# Altium schematic symbol library common.SchLib: 18 symbols
Pins are listed as number, name and electrical type; pins without a type are passive.

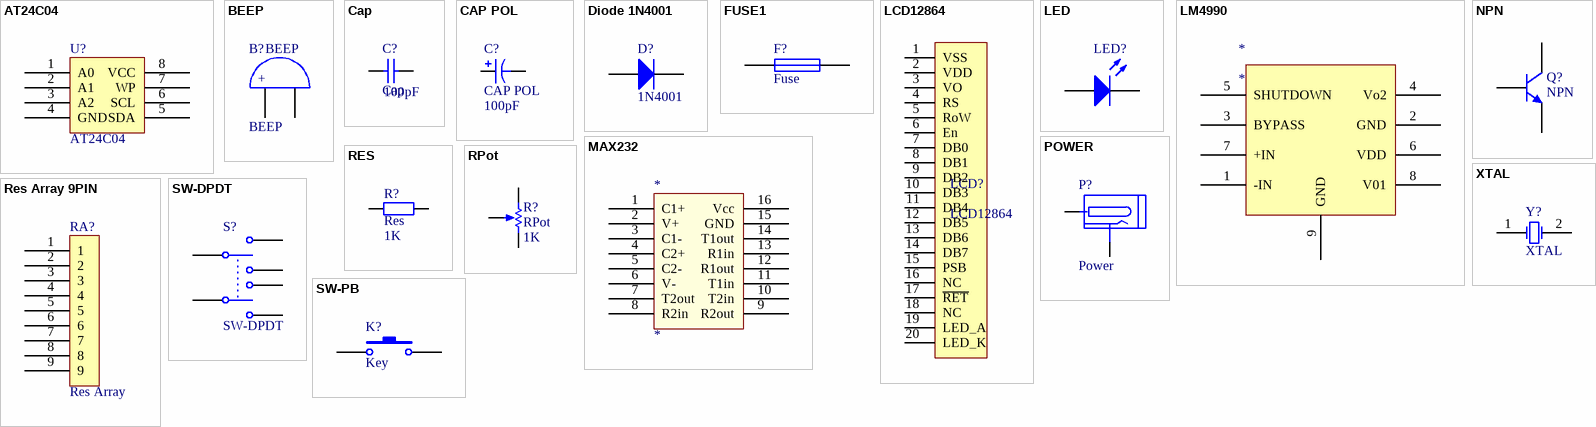
[diagram p0: symbols AT24C04 to XTAL]

## AT24C04
designator U?
footprint SOIC127P600-8AN (SOIC, 8-Leads, Body 4.9x3.9mm, Pitch 1.27mm, IPC Medium Density)
pins: 1 A0, 2 A1, 3 A2, 4 GND, 5 SDA, 6 SCL, 7 WP, 8 VCC

## BEEP
designator B?
footprint BEEP
pins: 1 B, 2 A
2 alternate drawings of the same symbol
text: +

## Cap
designator C?  value 100pF
Capacitor; Published: 8-Jun-2000; LatestRevisionDate: 17-Jul-2002; LatestRevisionNote: Re-released for DXP Platform.; Publisher: Altium Limited
footprint 1608[0603] (Chip Capacitor; Body 1.6 x 0.8 mm (LxW typ))
pins: 1, 2

## CAP POL
designator C?  value 100pF
Polarized Capacitor (Axial); Published: 8-Jun-2000; LatestRevisionDate: 17-Jul-2002; LatestRevisionNote: Re-released for DXP Platform.; Publisher: Altium Limited
footprint 2012[0805] - POL (Chip Resistor; Body 2.0 x 1.3 mm (LxW typ))
footprint 1608[0603] - POL (Chip Capacitor; Body 1.6 x 0.8 mm (LxW typ))
footprint B (Capacitor, SM Tantalum; Body 3.5 x 2.8 mm (LxW typ))
pins: 1, 2
1 alternate drawing of the same symbol

## Diode 1N4001
designator D?, comment 1N4001
1 Amp General Purpose Rectifier; Revision 1: 11-Jul-2000: SIM Model Added.; Revision 2: 17-Jul-2002: Re-released for DXP Platform.; Package Information: Latest Revision: Aug-1999; Code - JEDEC: DO-204-AL; Published: 8-Jun-2000; Datasheet: Latest Revision: 1998; Package Reference: DO-41; Publisher: Altium Limited
footprint 1608[0603] - POL (Chip Capacitor; Body 1.6 x 0.8 mm (LxW typ))
footprint 2012[0805] - POL (Chip Resistor; Body 2.0 x 1.3 mm (LxW typ))
pins: 1 A, 2 K

## FUSE1
designator F?, comment Fuse
footprint 2012[0805] (Chip Resistor; Body 2.0 x 1.3 mm (LxW typ))
footprint 1608[0603] (Chip Capacitor; Body 1.6 x 0.8 mm (LxW typ))
pins: 1, 2

## LCD12864
designator LCD?
footprint LCD-20PIN
pins: 1 VSS, 2 VDD, 3 VO, 4 RS, 5 RoW, 6 En, 7 DB0, 8 DB1, 9 DB2, 10 DB3, 11 DB4, 12 DB5, 13 DB6, 14 DB7, 15 PSB, 16 NC, 17 ~{RET}, 18 NC, 19 LED_A, 20 LED_K

## LED
designator LED?  (value not drawn)
footprint 2012[0805] - POL (Chip Resistor; Body 2.0 x 1.3 mm (LxW typ))
footprint 1608[0603] - POL (Chip Capacitor; Body 1.6 x 0.8 mm (LxW typ))
pins: 1 A, 2 K

## LM4990
designator *
pins: 1 -IN, 2 GND, 3 BYPASS, 4 Vo2, 5 SHUTDOWN, 6 VDD, 7 +IN, 8 V01, 9 GND

## MAX232
designator *
footprint DIP-16 (DIP; 16 Leads; Row Spacing 7.62 mm; Pitch 2.54 mm)
pins: 1 C1+, 2 V+, 3 C1-, 4 C2+, 5 C2-, 6 V-, 7 T2out, 8 R2in, 9 R2out, 10 T2in, 11 T1in, 12 R1out, 13 R1in, 14 T1out, 15 GND, 16 Vcc

## NPN
designator Q?
footprint SOT23-3L (SOT23, 3-Leads, Body 2.9x1.3mm, Pitch 0.95mm, Lead Span 2.5mm, IPC High Density); pin to pad 1>3 2>1 3>2
pins: 1 C, 2 B, 3 E

## POWER
designator P?, comment Power
footprint Power
pins: 1 (power), 2 (power)

## RES
designator R?, comment Res  value 1K
Resistor; Published: 8-Jun-2000; LatestRevisionDate: 17-Jul-2002; LatestRevisionNote: Re-released for DXP Platform.; Publisher: Altium Limited
footprint 1608[0603] (Chip Capacitor; Body 1.6 x 0.8 mm (LxW typ))
footprint 2012[0805] (Chip Resistor; Body 2.0 x 1.3 mm (LxW typ))
pins: 1, 2

## Res Array 9PIN
designator RA?, comment Res Array
footprint HDR1X9 (Footprint not found)
pins: 1, 2, 3, 4, 5, 6, 7, 8, 9

## RPot
designator R?  value 1K
Potentiometer; Sim Note: Enter the Resistance value and the set point into parameter fields.; Set Position: 0.5; Published: 8-Jun-2000; LatestRevisionDate: 17-Jul-2002; LatestRevisionNote: Re-released for DXP Platform.; Publisher: Altium Limited
footprint resvar (Potentiometer; 3 Leads)
pins: 1 TOP, 2 BOT, 3 TAP
1 alternate drawing of the same symbol

## SW-DPDT
designator S?
Double-Pole, Double-Throw Switch; Published: 24-Mar-1999; Revision: July-2002: Re-released for DXP Platform.; Publisher: Altium Limited
footprint SW-DPDT
pins: 1, 2, 3, 4, 5, 6

## SW-PB
designator K?, comment Key
footprint Key-4
pins: 1, 2

## XTAL
designator Y?
Crystal Oscillator; Published: 8-Jun-2000; Revision: July-2002: Re-released for DXP Platform.; Publisher: Altium Limited
footprint XTAL
pins: 1 OSC1, 2 OSC2